# Altium schematic symbol library YBS3010.SchLib: 1 symbol
Pins are listed as number, name and electrical type; pins without a type are passive.

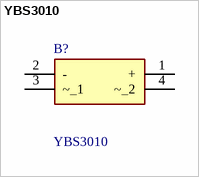
[diagram p0: symbol YBS3010]

## YBS3010
designator B?
Bridge Rectifiers; Manufacturer_Name: Yangzhou Yangjie Electronic Technology Co., Ltd.; Geometry.Height: 1.5mm; TME Electronic Components Part Number: *; TME Electronic Components Price/Stock: *; Manufacturer_Part_Number: YBS3010; Datasheet Link: https://www.tme.com/Document/9e7ccd3d26a51702a14bcc151423fd52/YBS3010_ser.pdf
footprint YBS3010
pins: 1 +, 2 -, 3 ~_1, 4 ~_2